# Altium footprint library SOIC-8 - OSRAM.PcbLib: 1 footprints
Each footprint in its own frame and in the unit in brackets; x right, y up, seen from the top. Pads: shape width x height; smd on the part's side, far side on the other; paste and mask are expansions set on the pad; w line width, h text height; cw(c..) or ccw(c..) is an arc to the next point about the centre after c.
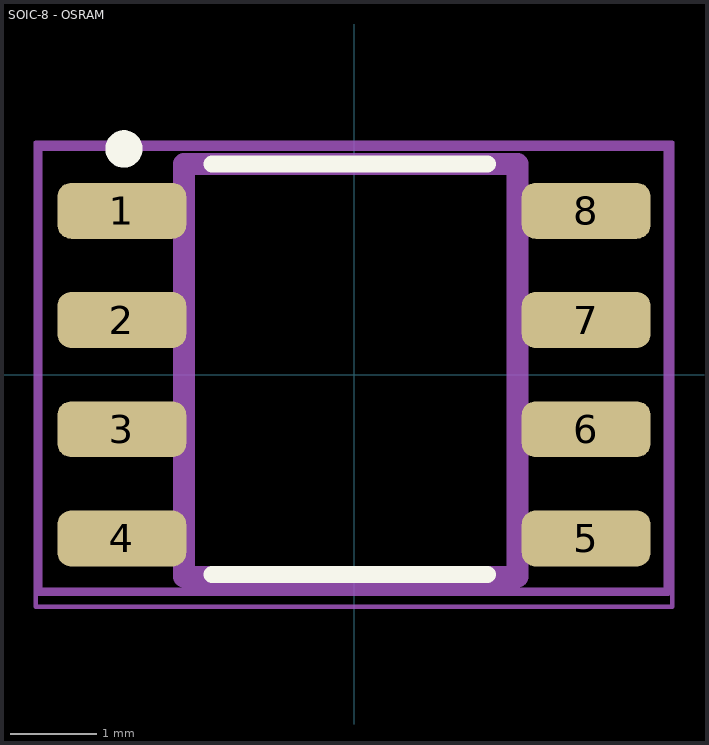
[diagram p0: the footprint, top view; thin cyan lines are the x and y axes]

## SOIC-8 - OSRAM [mm]
pads (8):
  rrect50% 1.5x0.65 smd: 1(-2.7,1.905) 2(-2.7,0.635) 3(-2.7,-0.635) 4(-2.7,-1.905) 5(2.7,-1.905) 6(2.7,-0.635) 7(2.7,0.635) 8(2.7,1.905)
Top Overlay:
  circle w0.254: c-2.675,2.625 r0.09
  lines w0.2: -1.65,-2.325 1.55,-2.325 ; -1.65,2.45 1.55,2.45
Top 3D Body:
  lines w0.254: -1.975,-2.35 -1.975,2.45 1.9,2.45 1.9,-2.35 -1.975,-2.35
  text "1" at -1.55,1.7 h0.4
Mechanical 15:
  lines w0.1: -3.675,-2.525 3.65,-2.525 3.65,2.65 -3.675,2.65 -3.675,-2.525
Mechanical 20:
  lines w0.05: -3.7,-2.7 3.7,-2.7 3.7,2.7 -3.7,2.7 -3.7,-2.7
Top Designator:
  text ".Designator" at 0.037,-1.004 h0.25
3D body "AS5600-ASOM.stp": height 1.75, standoff 0, extent -3,-2.413 3,2.487